# Altium footprint library FTR5.PcbLib: 1 footprints
Each footprint in its own frame and in the unit in brackets; x right, y up, seen from the top. Pads: shape width x height; smd on the part's side, far side on the other; paste and mask are expansions set on the pad; w line width, h text height; cw(c..) or ccw(c..) is an arc to the next point about the centre after c.
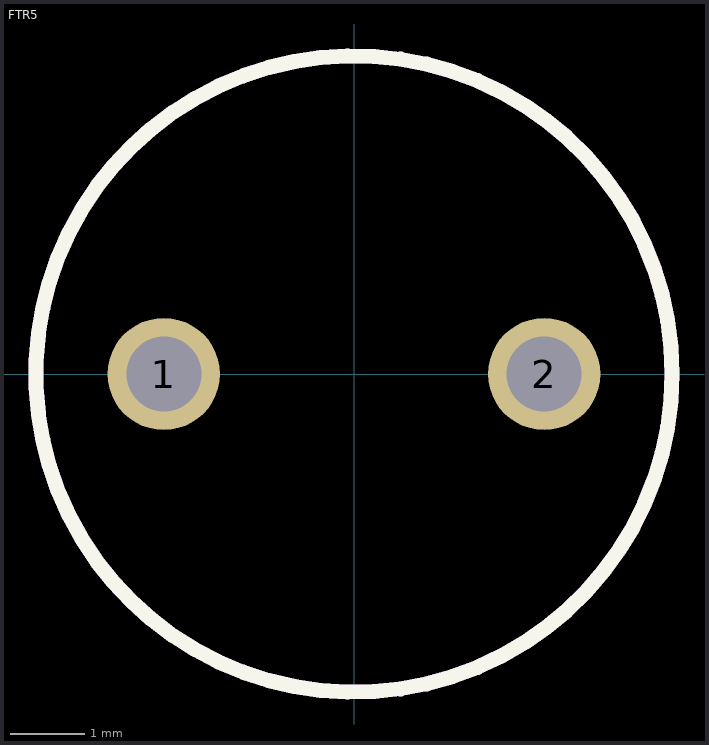
[diagram p0: the footprint, top view; thin cyan lines are the x and y axes]

## FTR5 [mm] "TR5  Fuses"
height 8
pads (2):
  round 1.5 hole 1: 1(-2.54,0) 2(2.54,0)
Top Overlay:
  circle w0.2: c0,0 r4.25
Top 3D Body:
  circle w0.2: c0,0 r4.25
3D body "User Library-Fuísivel 37200500411.step": height 8, standoff -4.3, extent -4.25,-4.25 4.25,4.25